# Altium integrated library QSTL_24DC_4MW_PCB.IntLib: 3 symbols
Pins are listed as number, name and electrical type; pins without a type are passive.

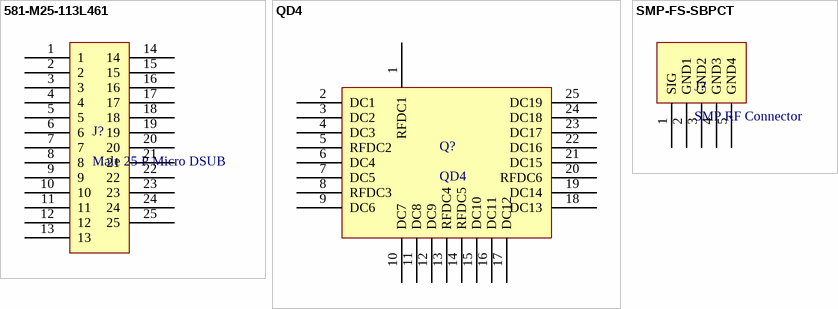
[diagram p0: symbols 581-M25-113L461 to SMP-FS-SBPCT]

## 581-M25-113L461
designator J?, comment Male 25 P Micro DSUB
footprint 581-M25-113L461
pins: 1, 2, 3, 4, 5, 6, 7, 8, 9, 10, 11, 12, 13, 14, 15, 16, 17, 18, 19, 20, 21, 22, 23, 24, 25

## QD4
designator Q?
footprint QD4
pins: 1 RFDC1, 2 DC1, 3 DC2, 4 DC3, 5 RFDC2, 6 DC4, 7 DC5, 8 RFDC3, 9 DC6, 10 DC7, 11 DC8, 12 DC9, 13 RFDC4, 14 RFDC5, 15 DC10, 16 DC11, 17 DC12, 18 DC13, 19 DC14, 20 RFDC6, 21 DC15, 22 DC16, 23 DC17, 24 DC18, 25 DC19

## SMP-FS-SBPCT
designator J?, comment SMP RF Connector
footprint SMP-FS-SBPCT
pins: 1 SIG, 2 GND1, 3 GND2, 4 GND3, 5 GND4